# EAGLE library part PIC16LF1508 (library MCU)
20-Pin Flash, 8-Bit Microcontrollers with XLP Technology
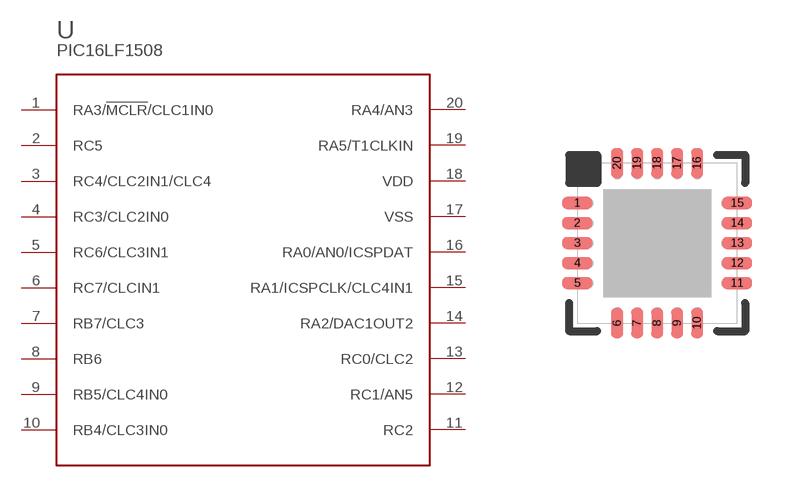
[diagram p7: symbol with the pads of QFN20; footprint QFN20]

Designator prefix U

## PIC16LF1508-E/ML  [QFN20]
1  RA3/!MCLR!/CLC1IN0
2  RC5
3  RC4/CLC2IN1/CLC4
4  RC3/CLC2IN0
5  RC6/CLC3IN1
6  RC7/CLCIN1
7  RB7/CLC3
8  RB6
9  RB5/CLC4IN0
10  RB4/CLC3IN0
11  RC2
12  RC1/AN5
13  RC0/CLC2
14  RA2/DAC1OUT2
15  RA1/ICSPCLK/CLC4IN1
16  RA0/AN0/ICSPDAT
17  VSS  pwr
18  VDD  pwr
19  RA5/T1CLKIN
20  RA4/AN3

## Footprint QFN20 (pad centres in mm)
Custom QFN20 4x4 mm, pitch 0.5 mm, Custom exposed pad
smd 0.75 x 0.3: 1 -2,1; 2 -2,0.5; 3 -2,0; 4 -2,-0.5; 5 -2,-1; 11 2,-1; 12 2,-0.5; 13 2,0; 14 2,0.5; 15 2,1
smd 0.3 x 0.75: 6 -1,-2; 7 -0.5,-2; 8 0,-2; 9 0.5,-2; 10 1,-2; 16 1,2; 17 0.5,2; 18 0,2; 19 -0.5,2; 20 -1,2